# EAGLE library part ATTINY_POGO (library digikey)
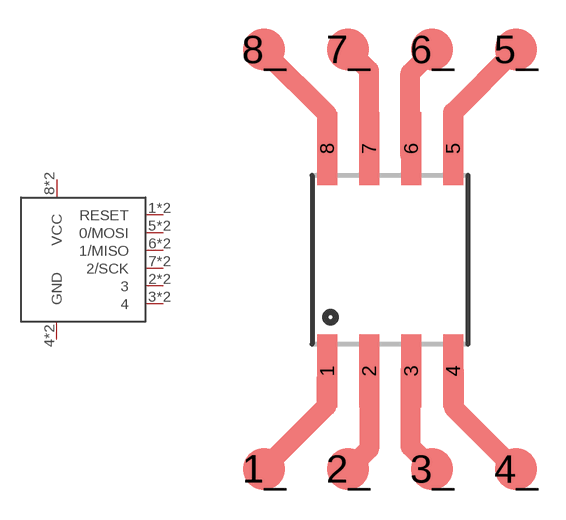
[diagram p5: symbol with the pads of ATTINY_POGO; footprint ATTINY_POGO]

Designator prefix -

## ATTINY_POGO  [ATTINY_POGO]
1  RESET
1_  RESET
2  3
2_  3
3  4
3_  4
4  GND
4_  GND
5  0/MOSI
5_  0/MOSI
6  1/MISO
6_  1/MISO
7  2/SCK
7_  2/SCK
8  VCC
8_  VCC

## Footprint ATTINY_POGO (pad centres in mm)
smd 0.61 x 2.21: 1 -1.905,-3.378; 2 -0.635,-3.378; 3 0.635,-3.378; 4 1.905,-3.378; 5 1.905,3.353; 6 0.635,3.353; 7 -0.635,3.353; 8 -1.905,3.353
smd 1.27 x 1.27: 1_ -3.81,-6.35; 2_ -1.27,-6.35; 3_ 1.27,-6.35; 4_ 3.81,-6.35; 5_ 3.81,6.35; 6_ 1.27,6.35; 7_ -1.27,6.35; 8_ -3.81,6.35